# EAGLE library part LTC3130 (library uni_dcdc)
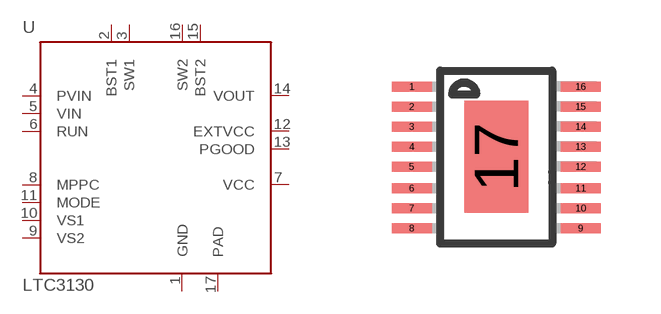
[diagram p1: symbol with the pads of MSOP16; footprint MSOP16]

Designator prefix -

## LTC3130  [MSOP16]
1  GND  pwr
2  BST1  oc
3  SW1  pas
4  PVIN  pwr
5  VIN  in
6  RUN  oc
7  VCC  in
8  MPPC  in
9  VS2  pas
10  VS1  pas
11  MODE  pas
12  EXTVCC  in
13  PGOOD  in
14  VOUT  in
15  BST2  in
16  SW2  in
17  PAD  pwr

## Footprint MSOP16 (pad centres in mm)
smd 1 x 0.25: 1 -2.113,2.27; 2 -2.113,1.77; 3 -2.113,1.27; 4 -2.113,0.77; 5 -2.113,0.27; 6 -2.113,-0.27; 7 -2.113,-0.77; 8 -2.113,-1.27; 9 2.113,-1.27; 10 2.113,-0.77; 11 2.113,-0.27; 12 2.113,0.27; 13 2.113,0.77; 14 2.113,1.27; 15 2.113,1.77; 16 2.113,2.27
smd 1.6 x 2.8: 17 0,0.508